# EAGLE library part CH340K (library ch340)
CH340K CH340K <https://raw.githubusercontent.com/Thore-Krug/ch340/master/datasheets/ch340-datasheet-englisch-rev2.pdf> The CH340K is a ESOP10 USB to UART adapter, it supports 5V and 3V3 IO Voltage.
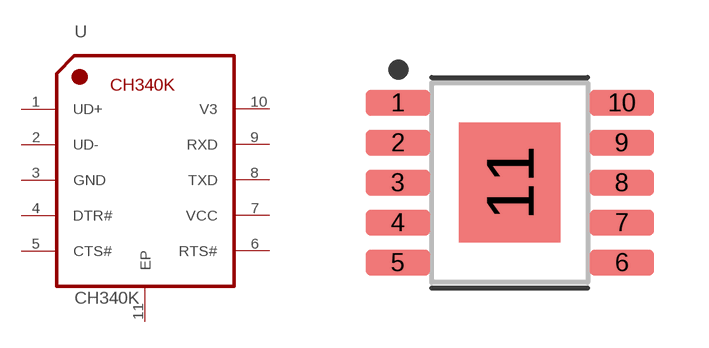
[diagram p1: symbol with the pads of SOP100P600X180-11T254X300M; footprint SOP100P600X180-11T254X300M]

Designator prefix U

## CH340K (MFG: WCH; MPN: CH340K; OC_LCSC: C968586)  [SOP100P600X180-11T254X300M]
1  UD+
2  UD-
3  GND  pas
4  DTR#  out
5  CTS#  in
6  RTS#  out
7  VCC  pwr
8  TXD  out
9  RXD  in
10  V3  pwr
11  EP  pas

## Footprint SOP100P600X180-11T254X300M (pad centres in mm)
10-SOP, 1.00 mm pitch, 6.00 mm span, 5.00 X 3.90 X 1.80 mm body, 3.00 X 2.54 mm thermal pad 10-pin SOP package with 1.00 mm pitch, 6.00 mm span with body size 5.00 X 3.90 X 1.80 mm and thermal pad size 3.00 X 2.54 mm
smd 1.612 x 0.642: 1 -2.8,2; 2 -2.8,1; 3 -2.8,0; 4 -2.8,-1; 5 -2.8,-2; 6 2.8,-2; 7 2.8,-1; 8 2.8,0; 9 2.8,1; 10 2.8,2
smd 2.54 x 3: 11 0,0